# EAGLE library part MCP6002 (library exoteric-analytics-custom)
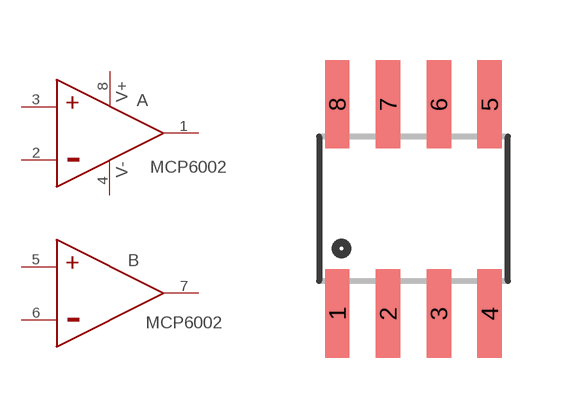
[diagram p3: symbol with the pads of SO08; footprint SO08]

Designator prefix -

## MCP6002  [SO08]
1  AO  out
2  A-
3  A+
4  V-  pwr
5  B+
6  B-
7  BO  out
8  V+  pwr

## Footprint SO08 (pad centres in mm)
Small Outline Package Fits JEDEC packages (narrow SOIC-8)
smd 0.61 x 2.21: 1 -1.905,-2.616; 2 -0.635,-2.616; 3 0.635,-2.616; 4 1.905,-2.616; 5 1.905,2.616; 6 0.635,2.616; 7 -0.635,2.616; 8 -1.905,2.616